# EAGLE library part UNITB (library FlukeNic)
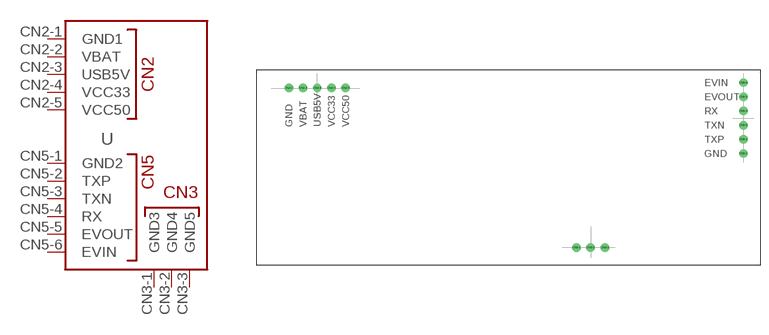
[diagram p11: symbol with the pads of UNITB; footprint UNITB]

Designator prefix U

## UNITB  [UNITB]
CN2-1  GND1  pwr
CN2-2  VBAT  pwr
CN2-3  USB5V  sup
CN2-4  VCC33  pwr
CN2-5  VCC50  pwr
CN3-1  GND3  pwr
CN3-2  GND4  pwr
CN3-3  GND5  pwr
CN5-1  GND2  pwr
CN5-2  TXP  out
CN5-3  TXN  out
CN5-4  RX  in
CN5-5  EVOUT  out
CN5-6  EVIN  in

## Footprint UNITB (pad centres in mm)
drill 1: CN2-1 5.715,31.75; CN2-2 8.255,31.75; CN2-3 10.795,31.75; CN2-4 13.335,31.75; CN2-5 15.875,31.75; CN3-1 57.15,3.175; CN3-2 59.69,3.175; CN3-3 62.23,3.175; CN5-1 86.995,20.003; CN5-2 86.995,22.543; CN5-3 86.995,25.082; CN5-4 86.995,27.622; CN5-5 86.995,30.163; CN5-6 86.995,32.703